# EAGLE library part PIC18F2550 (library microchip-dspic)
PIC18F Flash Microcontroller with USB port
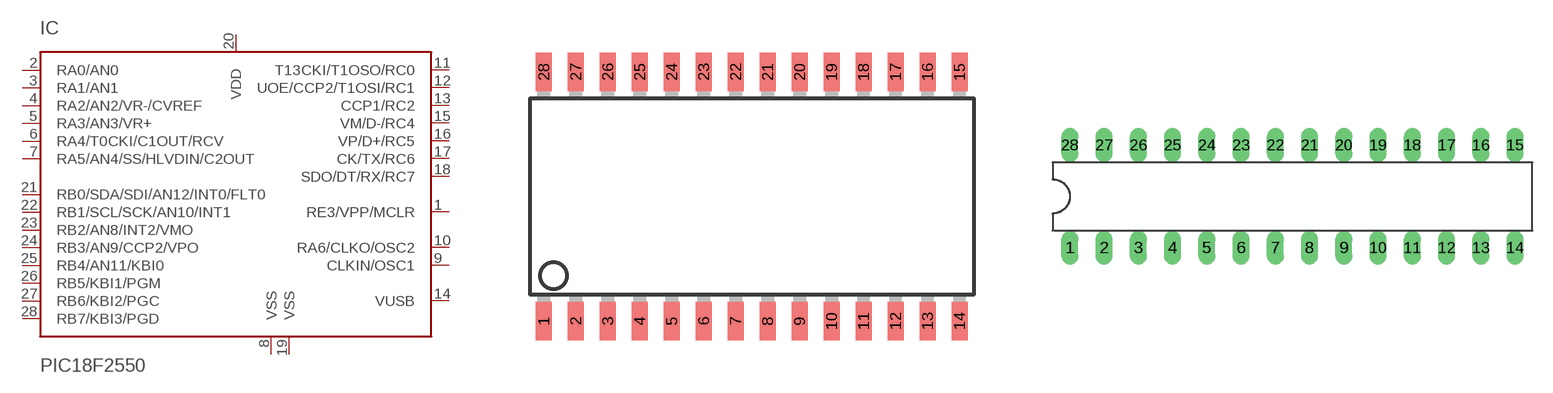
[diagram p23: symbol with the pads of SO-28W; footprints SO-28W, DIL28-3]

Designator prefix IC

## PIC18F2550SO  [SO-28W]
1  RE3/VPP/MCLR
2  RA0/AN0
3  RA1/AN1
4  RA2/AN2/VR-/CVREF
5  RA3/AN3/VR+
6  RA4/T0CKI/C1OUT/RCV
7  RA5/AN4/SS/HLVDIN/C2OUT
8  VSS  pwr
9  CLKIN/OSC1  in
10  RA6/CLKO/OSC2
11  T13CKI/T1OSO/RC0
12  UOE/CCP2/T1OSI/RC1
13  CCP1/RC2
14  VUSB  pwr
15  VM/D-/RC4
16  VP/D+/RC5
17  CK/TX/RC6
18  SDO/DT/RX/RC7
19  VSS  pwr
20  VDD  pwr
21  RB0/SDA/SDI/AN12/INT0/FLT0
22  RB1/SCL/SCK/AN10/INT1
23  RB2/AN8/INT2/VMO
24  RB3/AN9/CCP2/VPO
25  RB4/AN11/KBI0
26  RB5/KBI1/PGM
27  RB6/KBI2/PGC
28  RB7/KBI3/PGD

## PIC18F2550SP  [DIL28-3]
Pads as for SO-28W

## Footprint SO-28W (pad centres in mm)
Small Outline Wide Plastic Gull Wing 300-mil body, package type SO
smd 0.635 x 1.524: 1 -7.62,-4.953; 2 -6.35,-4.953; 3 -5.08,-4.953; 4 -3.81,-4.953; 5 -2.54,-4.953; 6 -1.27,-4.953; 7 0,-4.953; 8 1.27,-4.953; 9 2.54,-4.953; 10 3.81,-4.953; 11 5.08,-4.953; 12 6.35,-4.953; 13 7.62,-4.953; 14 8.89,-4.953; 15 8.89,4.953; 16 7.62,4.953; 17 6.35,4.953; 18 5.08,4.953; 19 3.81,4.953; 20 2.54,4.953; 21 1.27,4.953; 22 0,4.953; 23 -1.27,4.953; 24 -2.54,4.953; 25 -3.81,4.953; 26 -5.08,4.953; 27 -6.35,4.953; 28 -7.62,4.953

## Footprint DIL28-3 (pad centres in mm)
Dual In Line package type P
drill 0.5 pad 1.27 long: 1 -16.51,-3.81; 2 -13.97,-3.81; 3 -11.43,-3.81; 4 -8.89,-3.81; 5 -6.35,-3.81; 6 -3.81,-3.81; 7 -1.27,-3.81; 8 1.27,-3.81; 9 3.81,-3.81; 10 6.35,-3.81; 11 8.89,-3.81; 12 11.43,-3.81; 13 13.97,-3.81; 14 16.51,-3.81; 15 16.51,3.81; 16 13.97,3.81; 17 11.43,3.81; 18 8.89,3.81; 19 6.35,3.81; 20 3.81,3.81; 21 1.27,3.81; 22 -1.27,3.81; 23 -3.81,3.81; 24 -6.35,3.81; 25 -8.89,3.81; 26 -11.43,3.81; 27 -13.97,3.81; 28 -16.51,3.81